# Altium schematic symbol library PJ-320B_AudioJack.SchLib: 1 symbol
Pins are listed as number, name and electrical type; pins without a type are passive.

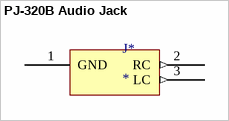
[diagram p0: symbol PJ-320B Audio Jack]

## PJ-320B Audio Jack
designator J*
footprint PJ-320B Audio Jack
pins: 1 GND, 2 RC (out), 3 LC (out)